# EAGLE library part 6KX8-P (library radiotubes)
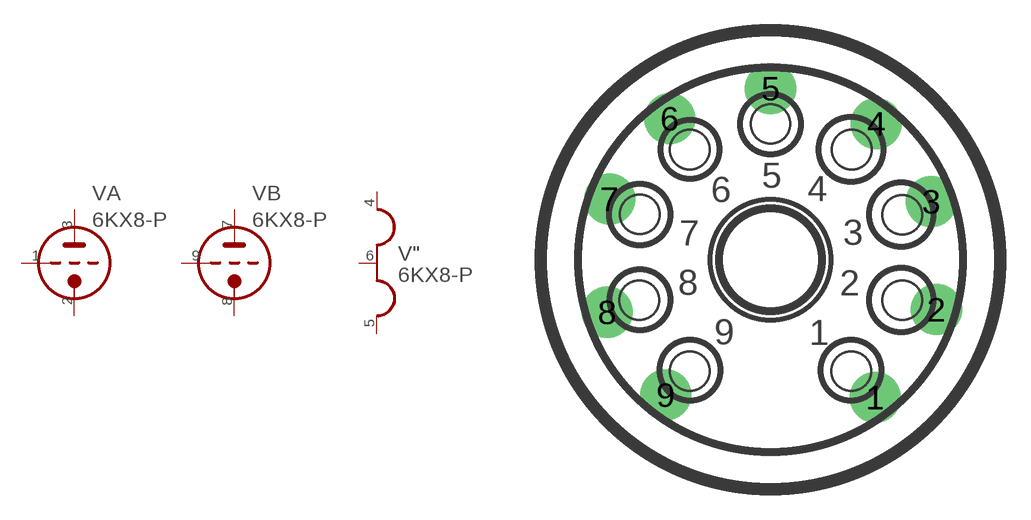
[diagram p70: symbol with the pads of NOVAL; footprint NOVAL]

Designator prefix V; gates A=TRIODE B=TRIODE "=HEATER_2

## 6KX8-P  [NOVAL]
1  A:G  pas
2  A:K  pas
3  A:A  pas
4  ":H1  pas
5  ":H3  pas
6  ":H2  pas
7  B:A  pas
8  B:K  pas
9  B:G  pas

## Footprint NOVAL (pad centres in mm)
drill 1.422 pad 2.54: 1 5.207,-6.858; 2 8.254,-2.484; 3 8.004,2.893; 4 5.258,6.77; 5 0,8.524; 6 -5.004,7.024; 7 -8.004,3.02; 8 -8.127,-2.611; 9 -5.207,-6.731